# EAGLE library part ACS724 (library we-sensor)
Allegro ACS724/ACS725 Hall Effect Current Sensor ACS724 VCC=5V, ACS725 VCC=3.3V -05AB-T +/-5A -10AU-T 10A -10AB-T +/-10A -20AU-T 20A -20AB-T +/-20A -30AU-T 30A -30AB-T +/-30A -50AB-T +/-50A
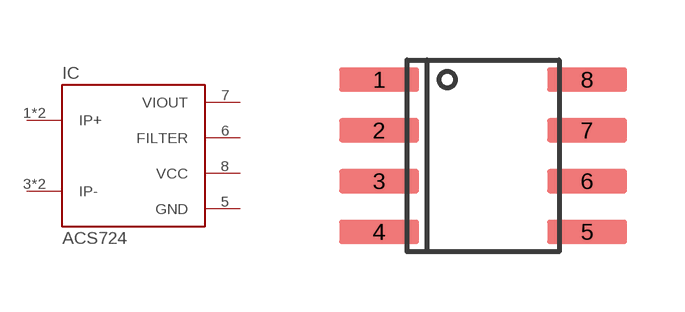
[diagram p6: symbol with the pads of SO08; footprint SO08]

Designator prefix IC

## ACS724LLCTR  [SO08]
1  IP+  pas
2  IP+  pas
3  IP-  pas
4  IP-  pas
5  GND  pwr
6  FILTER  out
7  VIOUT  out
8  VCC  pwr

## Footprint SO08 (pad centres in mm)
smd 2 x 0.6: 1 -2.6,1.905; 2 -2.6,0.635; 3 -2.6,-0.635; 4 -2.6,-1.905; 5 2.6,-1.905; 6 2.6,-0.635; 7 2.6,0.635; 8 2.6,1.905